# EAGLE library part RAK811 (library WIZnet)
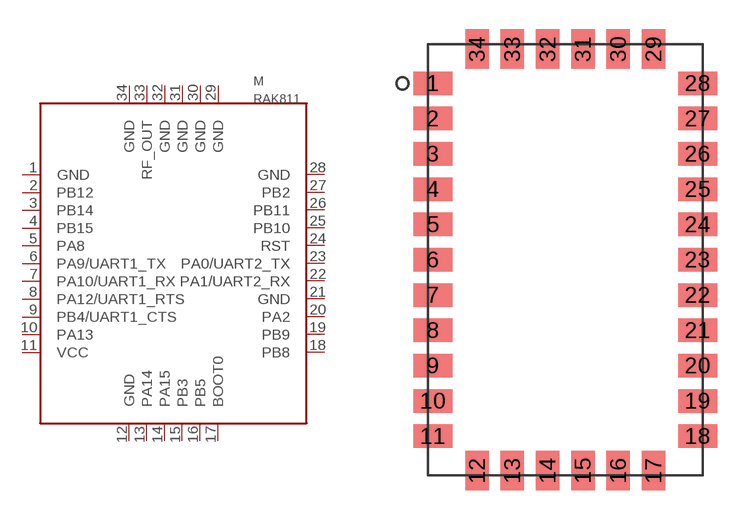
[diagram p11: symbol with the pads of RAK811; footprint RAK811]

Designator prefix M

## RAK811  [RAK811]
1  GND
2  PB12
3  PB14
4  PB15
5  PA8
6  PA9/UART1_TX
7  PA10/UART1_RX
8  PA12/UART1_RTS
9  PB4/UART1_CTS
10  PA13
11  VCC
12  GND
13  PA14
14  PA15
15  PB3
16  PB5
17  BOOT0
18  PB8
19  PB9
20  PA2
21  GND
22  PA1/UART2_RX
23  PA0/UART2_TX
24  RST
25  PB10
26  PB11
27  PB2
28  GND
29  GND
30  GND
31  GND
32  GND
33  RF_OUT
34  GND

## Footprint RAK811 (pad centres in mm)
smd 2 x 1.2: 1 -6.75,9; 2 -6.75,7.2; 3 -6.75,5.4; 4 -6.75,3.6; 5 -6.75,1.8; 6 -6.75,0; 7 -6.75,-1.8; 8 -6.75,-3.6; 9 -6.75,-5.4; 10 -6.75,-7.2; 11 -6.75,-9; 18 6.75,-9; 19 6.75,-7.2; 20 6.75,-5.4; 21 6.75,-3.6; 22 6.75,-1.8; 23 6.75,0; 24 6.75,1.8; 25 6.75,3.6; 26 6.75,5.4; 27 6.75,7.2; 28 6.75,9
smd 1.2 x 2: 12 -4.5,-10.75; 13 -2.7,-10.75; 14 -0.9,-10.75; 15 0.9,-10.75; 16 2.7,-10.75; 17 4.5,-10.75; 29 4.5,10.75; 30 2.7,10.75; 31 0.9,10.75; 32 -0.9,10.75; 33 -2.7,10.75; 34 -4.5,10.75